# Altium schematic symbol library Schlib1.SchLib: 7 symbols
Pins are listed as number, name and electrical type; pins without a type are passive.

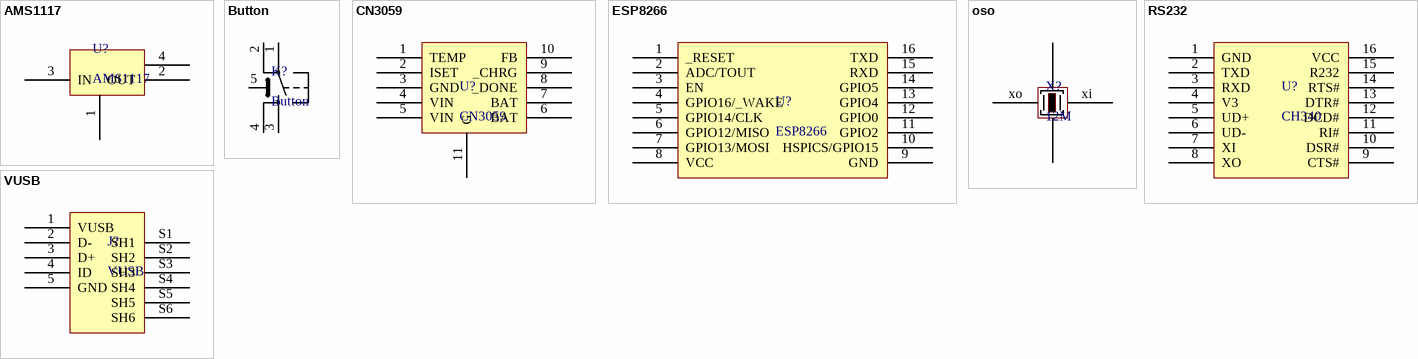
[diagram p0: symbols AMS1117 to VUSB]

## AMS1117
designator U?
pins: 1 p1, 2 OUT, 3 IN, 4 p4

## Button
designator K?
Button key
pins: 1, 2, 3, 4, 5

## CN3059
designator U?
footprint CN3059 (Footprint not found)
pins: 1 TEMP, 2 ISET, 3 GND, 4 VIN, 5 VIN, 6 BAT, 7 BAT, 8 _DONE, 9 _CHRG, 10 FB, 11 G

## ESP8266
designator U?
MCU
footprint ESP8266MOD? (Footprint not found)
pins: 1 _RESET, 2 ADC/TOUT, 3 EN, 4 GPIO16/_WAKE, 5 GPIO14/CLK, 6 GPIO12/MISO, 7 GPIO13/MOSI, 8 VCC, 9 GND, 10 HSPICS/GPIO15, 11 GPIO2, 12 GPIO0, 13 GPIO4, 14 GPIO5, 15 RXD, 16 TXD

## oso
designator X?, comment 12M
footprint OSO (Footprint not found)
pins: g1 xo, g2, xi VCC, xo VCC

## RS232
designator U?, comment CH340
RS232
footprint CH340 (Footprint not found)
pins: 1 GND, 2 TXD, 3 RXD, 4 V3, 5 UD+, 6 UD-, 7 XI, 8 XO, 9 CTS#, 10 DSR#, 11 RI#, 12 DCD#, 13 DTR#, 14 RTS#, 15 R232, 16 VCC

## VUSB
designator J?
pins: 1 VUSB, 2 D-, 3 D+, 4 ID, 5 GND, S1 SH1, S2 SH2, S3 SH3, S4 SH4, S5 SH5, S6 SH6